# EAGLE library part 428521420916 (library EAGLE-TACT_SWITCHES-rev16e)
10x10 mm washable SMD shaft type WS-ROSV,16 position <http://katalog.we-online.de/media/images/v2/Family_WS-ROTV_10x10mm_washable_THT_Rotary_Switch_4285274209xx.jpg> Details see: http://katalog.we-online.de/en/em/ROSV_10X10_WASHABLE_SMD_SHAFT_TYPE 2015 (C) Würth Elektronik
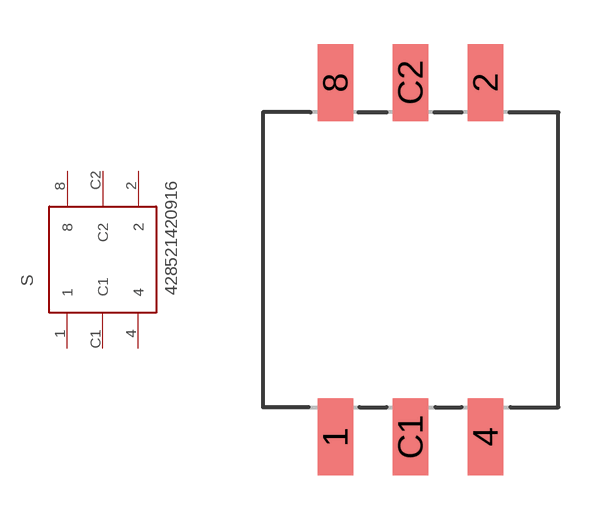
[diagram p14: symbol with the pads of 428521420916; footprint 428521420916]

Designator prefix S

## 428521420916  [428521420916]
1  1  pas
2  2  pas
4  4  pas
8  8  pas
C1  C1  pas
C2  C2  pas

## Footprint 428521420916 (pad centres in mm)
WS-RSS-10x10 mm washable SMD Rotary Switch,6 pins,16 position
smd 1.2 x 2.6: 1 -2.54,-6; 2 2.54,6; 4 2.54,-6; 8 -2.54,6; C1 0,-6; C2 0,6